# Altium schematic symbol library Inductors.SchLib: 1 symbol
Pins are listed as number, name and electrical type; pins without a type are passive.

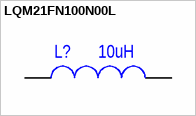
[diagram p0: symbol LQM21FN100N00L]

## LQM21FN100N00L
designator L?, comment 10uH
Part Number: LQM21FN100N00L; Manufacturer: Murata Electronics; Note: 0805; Value: 10uH
footprint IND: 0805
pins: 1, 2